# Altium footprint library Texas Instruments.PcbLib: 78 footprints (part 3 of 5)
Each footprint in its own frame and in the unit in brackets; x right, y up, seen from the top. Pads: shape width x height; smd on the part's side, far side on the other; paste and mask are expansions set on the pad; w line width, h text height; cw(c..) or ccw(c..) is an arc to the next point about the centre after c.
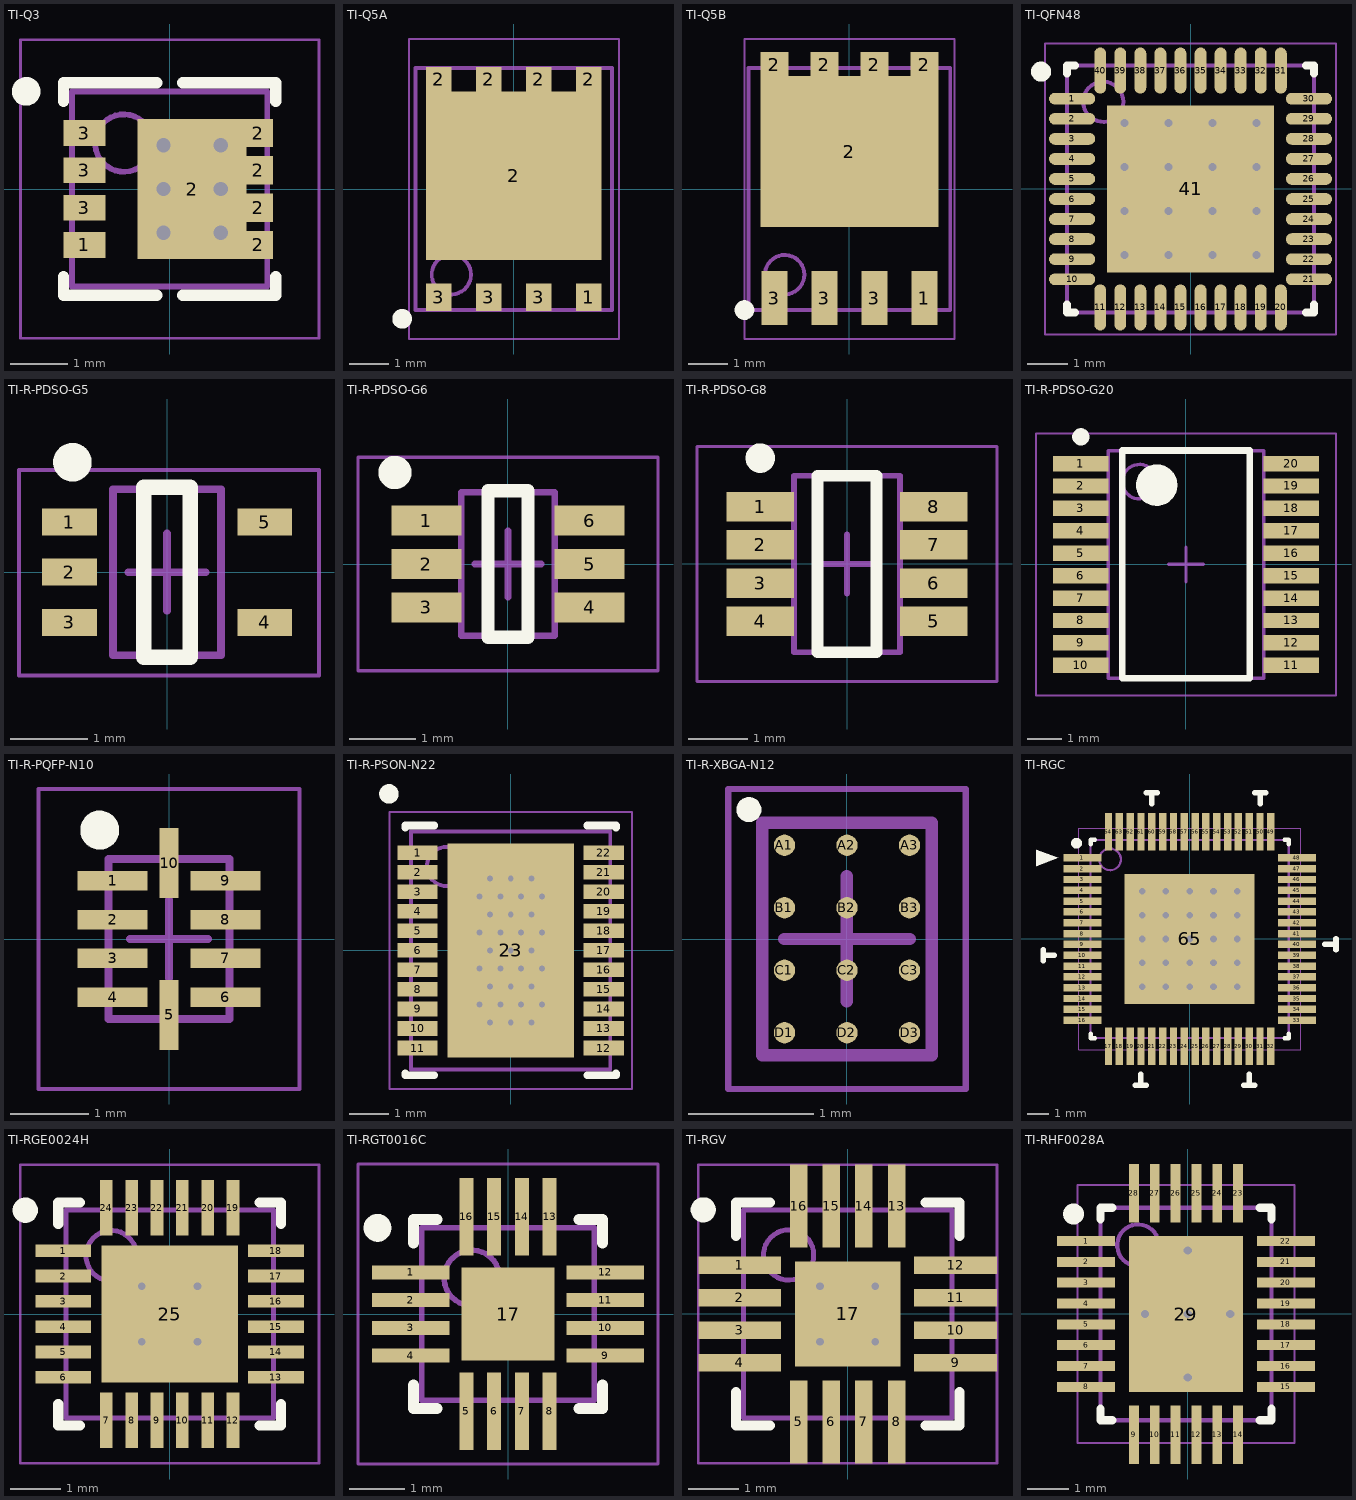
[diagram p2: the footprints below, top view; thin cyan lines are the x and y axes]

## TI-Q3 [mm] "QFN, 8-Leads, Body 3.30x3.30mm, Pitch 0.65mm, Thermal Pad 1.00x1.60mm, IPC Low Density"
height 1
pads (9):
  rect 0.73x0.447 smd paste-0.05 mask-0.05: 1(-1.485,-0.975) 3(-1.485,-0.325) 3(-1.485,0.325) 3(-1.485,0.975)
  rect 1.9x2.445 smd paste-0.05 mask-0.05: 2(0.39,0)
  rect 0.51x0.495 smd paste-0.05 mask-0.05: 2(1.545,-0.975) 2(1.545,-0.325) 2(1.545,0.325) 2(1.545,0.975)
via -0.109,-0.765 diameter 0.656 hole 0.25
via 0.891,-0.765 diameter 0.656 hole 0.25
via -0.109,0.765 diameter 0.656 hole 0.25
via 0.891,0.765 diameter 0.656 hole 0.25
via 0.891,0 diameter 0.656 hole 0.25
via -0.109,0 diameter 0.656 hole 0.25
Top Overlay:
  circle w0.25: c-2.5,1.7 r0.125
  lines w0.2: -1.85,-1.525 -1.85,-1.85 -0.225,-1.85 ; -1.85,1.525 -1.85,1.85 -0.225,1.85 ; 0.225,-1.85 1.85,-1.85 1.85,-1.525 ; 0.225,1.85 1.85,1.85 1.85,1.525
Assembly Top:
  circle w0.1: c-0.8,0.8 r0.5
  lines w0.1: -1.7,-1.7 -1.7,1.7 1.7,1.7 1.7,-1.7 -1.7,-1.7
Courtyard Top:
  lines w0.05: -2.6,-2.6 -2.6,2.6 2.6,2.6 2.6,-2.6 -2.6,-2.6
  lines w0.1: -0.5,0 0.5,0 ; 0,-0.5 0,0.5
3D body "TI-Q3.step": height 1, standoff 0, extent -1.701,-1.7 1.701,1.7

## TI-Q5A [mm]
height 1.1
pads (9):
  rect 0.65x0.7 smd: 1(1.905,-2.753) 3(-1.905,-2.753) 3(-0.635,-2.753) 3(0.635,-2.753)
  rect 0.65x0.63 smd: 2(-1.905,2.787) 2(-0.635,2.787) 2(0.635,2.787) 2(1.905,2.787)
  rect 4.46x4.27 smd: 2(0,0.337)
Top Overlay:
  circle w0.25: c-2.836,-3.298 r0.125
Assembly Top:
  circle w0.1: c-1.586,-2.175 r0.5
  lines w0.1: -2.5,-3.075 2.5,-3.075 2.5,3.075 -2.5,3.075 -2.5,-3.075
Courtyard Top:
  lines w0.05: -2.667,-3.81 2.667,-3.81 2.667,3.81 -2.667,3.81 -2.667,-3.81
  lines w0.1: -0.5,0 0.5,0 ; 0,-0.5 0,0.5
3D body "User Library-PowerPAK_SO-8L_SINGLE.STEP": height 1.07, standoff 0, extent -2.56,-3.075 2.56,3.075

## TI-Q5B [mm]
height 1.05
pads (9):
  rect 0.66x1.372 smd: 1(1.905,-2.77) 3(-1.905,-2.77) 3(-0.635,-2.77) 3(0.635,-2.77)
  rect 0.71x0.65 smd: 2(-1.905,3.161) 2(-0.635,3.161) 2(0.635,3.161) 2(1.905,3.161)
  rect 4.52x3.835 smd: 2(0,0.948)
Top Overlay:
  circle w0.25: c-2.667,-3.075 r0.125
Assembly Top:
  circle w0.1: c-1.646,-2.175 r0.5
  lines w0.1: -2.56,-3.075 -2.56,3.075 2.56,3.075 2.56,-3.075 -2.56,-3.075
Courtyard Top:
  lines w0.05: -2.667,-3.81 -2.667,3.81 2.667,3.81 2.667,-3.81 -2.667,-3.81
  lines w0.1: -0.5,0 0.5,0 ; 0,-0.5 0,0.5
3D body "User Library-PowerPAK_SO-8L_SINGLE.STEP": height 1.07, standoff 0, extent -2.56,-3.075 2.56,3.075

## TI-QFN48 [mm] "PQFN, 40-Leads, Body 6.00x6.00mm, Pitch 0.50mm, Thermal Pad 4.15x4.15mm, IPC Low Density"
height 1
pads (41):
  oval 1.15x0.296 smd: 1(-2.95,2.25) 2(-2.95,1.75) 3(-2.95,1.25) 4(-2.95,0.75) 5(-2.95,0.25) 6(-2.95,-0.25) 7(-2.95,-0.75) 8(-2.95,-1.25) 9(-2.95,-1.75) 10(-2.95,-2.25) 21(2.95,-2.25) 22(2.95,-1.75) 23(2.95,-1.25) 24(2.95,-0.75) 25(2.95,-0.25) 26(2.95,0.25) 27(2.95,0.75) 28(2.95,1.25) 29(2.95,1.75) 30(2.95,2.25)
  oval 0.296x1.15 smd: 11(-2.25,-2.95) 12(-1.75,-2.95) 13(-1.25,-2.95) 14(-0.75,-2.95) 15(-0.25,-2.95) 16(0.25,-2.95) 17(0.75,-2.95) 18(1.25,-2.95) 19(1.75,-2.95) 20(2.25,-2.95) 31(2.25,2.95) 32(1.75,2.95) 33(1.25,2.95) 34(0.75,2.95) 35(0.25,2.95) 36(-0.25,2.95) 37(-0.75,2.95) 38(-1.25,2.95) 39(-1.75,2.95) 40(-2.25,2.95)
  rect 4.15x4.15 smd: 41(0,0)
via 1.65,-1.65 diameter 0.5 hole 0.2
via 0.55,-1.65 diameter 0.5 hole 0.2
via -0.55,-1.65 diameter 0.5 hole 0.2
via -1.65,-1.65 diameter 0.5 hole 0.2
via 1.65,-0.55 diameter 0.5 hole 0.2
via 0.55,-0.55 diameter 0.5 hole 0.2
via -0.55,-0.55 diameter 0.5 hole 0.2
via -1.65,-0.55 diameter 0.5 hole 0.2
via 1.65,0.55 diameter 0.5 hole 0.2
via 0.55,0.55 diameter 0.5 hole 0.2
via -0.55,0.55 diameter 0.5 hole 0.2
via -1.65,0.55 diameter 0.5 hole 0.2
via 1.65,1.65 diameter 0.5 hole 0.2
via 0.55,1.65 diameter 0.5 hole 0.2
via -0.55,1.65 diameter 0.5 hole 0.2
via -1.65,1.65 diameter 0.5 hole 0.2
Top Overlay:
  circle w0.25: c-3.725,2.925 r0.125
  lines w0.2: -3.075,-2.875 -3.075,-3.075 -2.875,-3.075 ; -3.075,2.875 -3.075,3.075 -2.875,3.075 ; 2.875,-3.075 3.075,-3.075 3.075,-2.875 ; 2.875,3.075 3.075,3.075 3.075,2.875
Assembly Top:
  circle w0.1: c-2.175,2.175 r0.5
  lines w0.1: -3.075,-3.075 -3.075,3.075 3.075,3.075 3.075,-3.075 -3.075,-3.075
Courtyard Top:
  lines w0.05: -3.625,-3.625 3.625,-3.625 3.625,3.625 -3.625,3.625 -3.625,-3.625
  lines w0.1: -0.5,0 0.5,0 ; 0,-0.5 0,0.5
3D body: height 1, standoff 0, extent -3.075,-3.075 3.075,3.075

## TI-R-PDSO-G5 [mm] "SOT23, 5-Leads, Body 2.00x2.10mm, Pitch 0.65mm, IPC Low Density"
height 1.1
pads (5):
  rect 0.712x0.35 smd: 1(-1.266,0.65) 2(-1.266,0) 3(-1.266,-0.65) 4(1.266,-0.65) 5(1.266,0.65)
Top Overlay:
  circle w0.25: c-1.225,1.425 r0.125
  lines w0.2: -0.3,-1.1 -0.3,1.1 0.3,1.1 0.3,-1.1 -0.3,-1.1
Assembly Top:
  lines w0.1: -0.7,-1.075 0.7,-1.075 0.7,1.075 -0.7,1.075 -0.7,-1.075
Courtyard Top:
  lines w0.05: -1.917,-1.338 1.968,-1.338 1.968,1.325 -1.917,1.325 -1.917,-1.338
  lines w0.1: -0.5,0 0.5,0 ; 0,-0.5 0,0.5
3D body "TI-R-PDSO-G5.step": height 1.1, standoff 0, extent -1.2,-1.075 1.2,1.075

## TI-R-PDSO-G6 [mm] "SOT23, 6-Leads, Body 2.00x2.10mm, Pitch 0.65mm, IPC Low Density"
height 1.1
pads (6):
  rect 1.05x0.45 smd: 1(-1.225,0.65) 2(-1.225,0) 3(-1.225,-0.65) 4(1.225,-0.65) 5(1.225,0) 6(1.225,0.65)
Top Overlay:
  circle w0.25: c-1.695,1.372 r0.125
  lines w0.2: -0.3,-1.1 -0.3,1.1 0.3,1.1 0.3,-1.1 -0.3,-1.1
Top Assembly:
  lines w0.1: -0.7,-1.075 0.7,-1.075 0.7,1.075 -0.7,1.075 -0.7,-1.075
Top Courtyard:
  lines w0.05: -2.25,-1.6 2.25,-1.6 2.25,1.6 -2.25,1.6 -2.25,-1.6
  lines w0.1: -0.5,0 0.5,0 ; 0,-0.5 0,0.5
3D body "TI-R-PDSO-G61.step": height 1.1, standoff 0, extent -1.2,-1.075 1.2,1.075

## TI-R-PDSO-G8 [mm] "TSOP, 8-Leads, Body 2.90x1.60mm, Pitch 0.65mm, IPC Low Density"
height 1.45
pads (8):
  rect 1.15x0.5 smd: 1(-1.475,0.975) 2(-1.475,0.325) 3(-1.475,-0.325) 4(-1.475,-0.975) 5(1.475,-0.975) 6(1.475,-0.325) 7(1.475,0.325) 8(1.475,0.975)
Top Overlay:
  circle w0.25: c-1.475,1.8 r0.125
  lines w0.2: -0.5,-1.5 0.5,-1.5 0.5,1.5 -0.5,1.5 -0.5,-1.5
Top Assembly:
  lines w0.1: -0.9,-1.5 0.9,-1.5 0.9,1.5 -0.9,1.5 -0.9,-1.5
Top Courtyard:
  lines w0.05: -2.55,-2 2.55,-2 2.55,2 -2.55,2 -2.55,-2
  lines w0.1: -0.5,0 0.5,0 ; 0,-0.5 0,0.5
3D body "R-PDSO-G8.step": height 1.45, standoff 0, extent -1.393,-1.5 1.393,1.5

## TI-R-PDSO-G20 [mm] "TSOP, 20-Leads, Body 6.50x4.40mm, Pitch 0.65mm, IPC Low Density"
height 1.2
pads (20):
  rect 1.6x0.447 smd: 1(-3.05,2.925) 2(-3.05,2.275) 3(-3.05,1.625) 4(-3.05,0.975) 5(-3.05,0.325) 6(-3.05,-0.325) 7(-3.05,-0.975) 8(-3.05,-1.625) 9(-3.05,-2.275) 10(-3.05,-2.925) 11(3.05,-2.925) 12(3.05,-2.275) 13(3.05,-1.625) 14(3.05,-0.975) 15(3.05,-0.325) 16(3.05,0.325) 17(3.05,0.975) 18(3.05,1.625) 19(3.05,2.275) 20(3.05,2.925)
Top Overlay:
  circle w0.6: c-0.85,2.3 r0.3
  circle w0.25: c-3.05,3.7 r0.125
  lines w0.2: -1.85,-3.3 1.85,-3.3 1.85,3.3 -1.85,3.3 -1.85,-3.3
Assembly Top:
  circle w0.1: c-1.35,2.4 r0.5
  lines w0.1: -2.25,-3.3 2.25,-3.3 2.25,3.3 -2.25,3.3 -2.25,-3.3
Courtyard Top:
  lines w0.05: -4.35,-3.8 4.35,-3.8 4.35,3.8 -4.35,3.8 -4.35,-3.8
  lines w0.1: -0.5,0 0.5,0 ; 0,-0.5 0,0.5
3D body "TI-PWRPDSOG20.step": height 1.2, standoff 0, extent -3.2,-3.3 3.2,3.3

## TI-R-PQFP-N10 [mm] "QFN, 10-Leads, Body 1.50x2.00mm, Pitch 0.50mm, IPC Low Density"
height 0.4
pads (10):
  rect 0.9x0.25 smd: 1(-0.725,0.75) 2(-0.725,0.25) 3(-0.725,-0.25) 4(-0.725,-0.75) 6(0.725,-0.75) 7(0.725,-0.25) 8(0.725,0.25) 9(0.725,0.75)
  rect 0.25x0.9 smd: 5(0,-0.975) 10(0,0.975)
Top Overlay:
  circle w0.25: c-0.889,1.397 r0.125
Top Assembly:
  lines w0.1: -0.775,-1.025 0.775,-1.025 0.775,1.025 -0.775,1.025 -0.775,-1.025
Top Courtyard:
  lines w0.05: -1.675,-1.925 1.675,-1.925 1.675,1.925 -1.675,1.925 -1.675,-1.925
  lines w0.1: -0.5,0 0.5,0 ; 0,-0.5 0,0.5
3D body "TI-R-PQFP-N10.step": height 0.4, standoff 0, extent -0.776,-1.026 0.776,1.026

## TI-R-PSON-N22 [mm] "PSON, 22-Leads, Body 6.00x5.00mm, Pitch 0.50mm, Thermal Pad 5.48x3.24mm, IPC Low Density"
height 1.5
pads (23):
  rect 1.03x0.373 smd: 1(-2.385,2.5) 2(-2.385,2) 3(-2.385,1.5) 4(-2.385,1) 5(-2.385,0.5) 6(-2.385,0) 7(-2.385,-0.5) 8(-2.385,-1) 9(-2.385,-1.5) 10(-2.385,-2) 11(-2.385,-2.5) 12(2.385,-2.5) 13(2.385,-2) 14(2.385,-1.5) 15(2.385,-1) 16(2.385,-0.5) 17(2.385,0) 18(2.385,0.5) 19(2.385,1) 20(2.385,1.5) 21(2.385,2) 22(2.385,2.5)
  rect 3.24x5.48 smd paste-1.62: 23(0,0)
via -0.8,-0.462 diameter 0.406 hole 0.152
via -0.533,0 diameter 0.406 hole 0.152
via 0.267,-0.462 diameter 0.406 hole 0.152
via -0.267,-0.462 diameter 0.406 hole 0.152
via 0,0 diameter 0.406 hole 0.152
via -0.8,0.462 diameter 0.406 hole 0.152
via 0.267,0.462 diameter 0.406 hole 0.152
via -0.267,0.462 diameter 0.406 hole 0.152
via 0.533,0 diameter 0.406 hole 0.152
via 0.8,0.462 diameter 0.406 hole 0.152
via 0.8,-0.462 diameter 0.406 hole 0.152
via -0.533,-0.924 diameter 0.406 hole 0.152
via 0,-0.924 diameter 0.406 hole 0.152
via -0.8,-1.386 diameter 0.406 hole 0.152
via 0.267,-1.386 diameter 0.406 hole 0.152
via -0.267,-1.386 diameter 0.406 hole 0.152
via 0.533,-0.924 diameter 0.406 hole 0.152
via 0.8,-1.386 diameter 0.406 hole 0.152
via -0.533,0.924 diameter 0.406 hole 0.152
via 0,0.924 diameter 0.406 hole 0.152
via -0.8,1.386 diameter 0.406 hole 0.152
via 0.267,1.386 diameter 0.406 hole 0.152
via -0.267,1.386 diameter 0.406 hole 0.152
via 0.533,0.924 diameter 0.406 hole 0.152
via 0.8,1.386 diameter 0.406 hole 0.152
via -0.533,1.848 diameter 0.406 hole 0.152
via 0,1.848 diameter 0.406 hole 0.152
via 0.533,1.848 diameter 0.406 hole 0.152
via -0.533,-1.848 diameter 0.406 hole 0.152
via 0,-1.848 diameter 0.406 hole 0.152
via 0.533,-1.848 diameter 0.406 hole 0.152
Top Overlay:
  circle w0.25: c-3.12,4.01 r0.125
  lines w0.2: -2.7,-3.15 -2.7,-3.2 -1.96,-3.2 ; -2.7,3.15 -2.7,3.2 -1.96,3.2 ; 1.96,-3.2 2.7,-3.2 2.7,-3.15 ; 1.96,3.2 2.7,3.2 2.7,3.15
Top Paste:
  rectangle: 0.1,-2.64 1.52,-1.47
  rectangle: 0.1,-1.27 1.52,-0.1
  rectangle: 0.1,0.1 1.52,1.27
  rectangle: 0.1,1.47 1.52,2.64
  rectangle: -1.52,-2.64 -0.1,-1.47
  rectangle: -1.52,-1.27 -0.1,-0.1
  rectangle: -1.52,0.1 -0.1,1.27
  rectangle: -1.52,1.47 -0.1,2.64
Top Assembly:
  circle w0.1: c-1.65,2.15 r0.5
  lines w0.1: -2.55,-3.05 2.55,-3.05 2.55,3.05 -2.55,3.05 -2.55,-3.05
Top Courtyard:
  lines w0.05: -3.105,-3.55 3.105,-3.55 3.105,3.55 -3.105,3.55 -3.105,-3.55
  lines w0.1: -0.5,0 0.5,0 ; 0,-0.5 0,0.5
3D body "PSON50P500X150_HS-23M.step": height 1.5, standoff 0, extent -2.551,-3.05 2.551,3.05

## TI-R-XBGA-N12 [mm] "BGA, 12-Leads, Body 1.36x1.86mmx0.63mm, Pitch 0.50mm"
height 0.63
pads (12):
  round 0.17 smd: A1(-0.5,0.75) A2(0,0.75) A3(0.5,0.75) B1(-0.5,0.25) B2(0,0.25) B3(0.5,0.25) C1(-0.5,-0.25) C2(0,-0.25) C3(0.5,-0.25) D1(-0.5,-0.75) D2(0,-0.75) D3(0.5,-0.75)
Top Overlay:
  circle w0.1: c-0.785,1.035 r0.05
Assembly Top:
  lines w0.1: -0.68,-0.93 -0.68,0.93 0.68,0.93 0.68,-0.93 -0.68,-0.93
Courtyard Top:
  lines w0.05: -0.95,-1.2 -0.95,1.2 0.95,1.2 0.95,-1.2 -0.95,-1.2
  lines w0.1: -0.5,0 0.5,0 ; 0,-0.5 0,0.5
3D body "TI-R-XBGA-N12.step": height 0.63, standoff 0, extent -0.68,-0.93 0.68,0.93

## TI-RGC [mm] "PQFN, 64-Leads, Body 9.00x9.00mm, Pitch 0.50mm, Thermal Pad 6.00x6.00mm, IPC Low Density"
height 1
pads (65):
  rect 1.75x0.34 smd: 1(-4.95,3.75) 2(-4.95,3.25) 3(-4.95,2.75) 4(-4.95,2.25) 5(-4.95,1.75) 6(-4.95,1.25) 7(-4.95,0.75) 8(-4.95,0.25) 9(-4.95,-0.25) 10(-4.95,-0.75) 11(-4.95,-1.25) 12(-4.95,-1.75) 13(-4.95,-2.25) 14(-4.95,-2.75) 15(-4.95,-3.25) 16(-4.95,-3.75) 33(4.95,-3.75) 34(4.95,-3.25) 35(4.95,-2.75) 36(4.95,-2.25) 37(4.95,-1.75) 38(4.95,-1.25) 39(4.95,-0.75) 40(4.95,-0.25) 41(4.95,0.25) 42(4.95,0.75) 43(4.95,1.25) 44(4.95,1.75) 45(4.95,2.25) 46(4.95,2.75) 47(4.95,3.25) 48(4.95,3.75)
  rect 0.34x1.75 smd: 17(-3.75,-4.95) 18(-3.25,-4.95) 19(-2.75,-4.95) 20(-2.25,-4.95) 21(-1.75,-4.95) 22(-1.25,-4.95) 23(-0.75,-4.95) 24(-0.25,-4.95) 25(0.25,-4.95) 26(0.75,-4.95) 27(1.25,-4.95) 28(1.75,-4.95) 29(2.25,-4.95) 30(2.75,-4.95) 31(3.25,-4.95) 32(3.75,-4.95) 49(3.75,4.95) 50(3.25,4.95) 51(2.75,4.95) 52(2.25,4.95) 53(1.75,4.95) 54(1.25,4.95) 55(0.75,4.95) 56(0.25,4.95) 57(-0.25,4.95) 58(-0.75,4.95) 59(-1.25,4.95) 60(-1.75,4.95) 61(-2.25,4.95) 62(-2.75,4.95) 63(-3.25,4.95) 64(-3.75,4.95)
  rect 6x6 smd: 65(0,0)
via 2.2,-2.2 diameter 0.607 hole 0.301
via 1.1,-2.2 diameter 0.607 hole 0.301
via 0,-2.2 diameter 0.607 hole 0.301
via -1.1,-2.2 diameter 0.607 hole 0.301
via -2.2,-2.2 diameter 0.607 hole 0.301
via 2.2,-1.1 diameter 0.607 hole 0.301
via 1.1,-1.1 diameter 0.607 hole 0.301
via 0,-1.1 diameter 0.607 hole 0.301
via -1.1,-1.1 diameter 0.607 hole 0.301
via -2.2,-1.1 diameter 0.607 hole 0.301
via 2.2,0 diameter 0.607 hole 0.301
via 1.1,0 diameter 0.607 hole 0.301
via 0,0 diameter 0.607 hole 0.301
via -1.1,0 diameter 0.607 hole 0.301
via -2.2,0 diameter 0.607 hole 0.301
via 2.2,1.1 diameter 0.607 hole 0.301
via 1.1,1.1 diameter 0.607 hole 0.301
via 0,1.1 diameter 0.607 hole 0.301
via -1.1,1.1 diameter 0.607 hole 0.301
via -2.2,1.1 diameter 0.607 hole 0.301
via 2.2,2.2 diameter 0.607 hole 0.301
via 1.1,2.2 diameter 0.607 hole 0.301
via 0,2.2 diameter 0.607 hole 0.301
via -1.1,2.2 diameter 0.607 hole 0.301
via -2.2,2.2 diameter 0.607 hole 0.301
Top Overlay:
  circle w0.25: c-5.225,4.425 r0.125
  region: -6.08,3.741 -7.096,4.122 -7.096,3.36
  lines w0.2: -4.575,-4.375 -4.575,-4.575 -4.375,-4.575 ; -4.575,4.375 -4.575,4.575 -4.375,4.575 ; 4.375,-4.575 4.575,-4.575 4.575,-4.375 ; 4.375,4.575 4.575,4.575 4.575,4.375
  lines w0.254: -6.756,-1.004 -6.756,-0.496 ; -6.756,-0.75 -6.248,-0.75 ; -2.504,-6.756 -1.996,-6.756 ; -2.25,-6.756 -2.25,-6.248 ; -2.004,6.756 -1.496,6.756 ; -1.75,6.248 -1.75,6.756 ; 2.496,-6.756 3.004,-6.756 ; 2.75,-6.756 2.75,-6.248 ; 2.996,6.756 3.504,6.756 ; 3.25,6.248 3.25,6.756 ; 6.248,-0.25 6.756,-0.25 ; 6.756,-0.504 6.756,0.004
Assembly Top:
  circle w0.1: c-3.675,3.675 r0.5
  lines w0.1: -4.575,-4.575 4.575,-4.575 4.575,4.575 -4.575,4.575 -4.575,-4.575
Courtyard Top:
  lines w0.05: -5.125,-5.125 5.125,-5.125 5.125,5.125 -5.125,5.125 -5.125,-5.125
  lines w0.1: -0.5,0 0.5,0 ; 0,-0.5 0,0.5
3D body "TI-RGC.step": height 1, standoff 0, extent -4.575,-4.575 4.575,4.575

## TI-RGE0024H [mm] "QFN, 24-Leads, Body 4.00x4.00mm, Pitch 0.50mm, Thermal Pad 2.70x2.70mm, IPC Low Density"
height 1
pads (25):
  rect 1.1x0.25 smd: 1(-2.1,1.25) 2(-2.1,0.75) 3(-2.1,0.25) 4(-2.1,-0.25) 5(-2.1,-0.75) 6(-2.1,-1.25) 13(2.1,-1.25) 14(2.1,-0.75) 15(2.1,-0.25) 16(2.1,0.25) 17(2.1,0.75) 18(2.1,1.25)
  rect 0.25x1.1 smd: 7(-1.25,-2.1) 8(-0.75,-2.1) 9(-0.25,-2.1) 10(0.25,-2.1) 11(0.75,-2.1) 12(1.25,-2.1) 19(1.25,2.1) 20(0.75,2.1) 21(0.25,2.1) 22(-0.25,2.1) 23(-0.75,2.1) 24(-1.25,2.1)
  rect 2.7x2.7 smd: 25(0,0)
via 0.55,-0.55 diameter 0.406 hole 0.152
via -0.55,-0.55 diameter 0.406 hole 0.152
via 0.55,0.55 diameter 0.406 hole 0.152
via -0.55,0.55 diameter 0.406 hole 0.152
Top Overlay:
  circle w0.25: c-2.85,2.05 r0.125
  lines w0.2: -2.2,-1.775 -2.2,-2.2 -1.775,-2.2 ; -2.2,1.775 -2.2,2.2 -1.775,2.2 ; 1.775,-2.2 2.2,-2.2 2.2,-1.775 ; 1.775,2.2 2.2,2.2 2.2,1.775
Top Assembly:
  circle w0.1: c-1.15,1.15 r0.5
  lines w0.1: -2.05,-2.05 -2.05,2.05 2.05,2.05 2.05,-2.05 -2.05,-2.05
Top Courtyard:
  lines w0.05: -2.95,-2.95 -2.95,2.95 2.95,2.95 2.95,-2.95 -2.95,-2.95
  lines w0.1: -0.5,0 0.5,0 ; 0,-0.5 0,0.5
3D body "TI-RGE0024H.step": height 1, standoff 0, extent -2.051,-2.051 2.051,2.051

## TI-RGT0016C [mm] "QFN, 16-Leads, Body 3.00x3.00mm, Pitch 0.50mm, Thermal Pad 1.68x1.68mm, IPC Low Density"
height 1
pads (17):
  rect 1.4x0.25 smd: 1(-1.75,0.75) 2(-1.75,0.25) 3(-1.75,-0.25) 4(-1.75,-0.75) 9(1.75,-0.75) 10(1.75,-0.25) 11(1.75,0.25) 12(1.75,0.75)
  rect 0.25x1.4 smd: 5(-0.75,-1.75) 6(-0.25,-1.75) 7(0.25,-1.75) 8(0.75,-1.75) 13(0.75,1.75) 14(0.25,1.75) 15(-0.25,1.75) 16(-0.75,1.75)
  rect 1.68x1.68 smd: 17(0,0)
Top Overlay:
  circle w0.25: c-2.35,1.55 r0.125
  lines w0.2: -1.7,-1.275 -1.7,-1.7 -1.275,-1.7 ; -1.7,1.275 -1.7,1.7 -1.275,1.7 ; 1.275,-1.7 1.7,-1.7 1.7,-1.275 ; 1.275,1.7 1.7,1.7 1.7,1.275
Assembly Top:
  circle w0.1: c-0.65,0.65 r0.5
  lines w0.1: -1.55,-1.55 -1.55,1.55 1.55,1.55 1.55,-1.55 -1.55,-1.55
Courtyard Top:
  lines w0.05: -2.7,-2.7 -2.7,2.7 2.7,2.7 2.7,-2.7 -2.7,-2.7
Top Courtyard:
  lines w0.1: -0.5,0 0.5,0 ; 0,-0.5 0,0.5
3D body "TI-RGT0016C.step": height 1, standoff 0, extent -1.551,-1.551 1.551,1.551

## TI-RGV [mm] "QFN, 16-Leads, Body 4.00x4.00mm, Pitch 0.65mm, Thermal Pad 2.10x2.10mm, IPC Low Density"
height 1
pads (17):
  rect 1.65x0.35 smd: 1(-2.15,0.975) 2(-2.15,0.325) 3(-2.15,-0.325) 4(-2.15,-0.975) 9(2.15,-0.975) 10(2.15,-0.325) 11(2.15,0.325) 12(2.15,0.975)
  rect 0.35x1.65 smd: 5(-0.975,-2.15) 6(-0.325,-2.15) 7(0.325,-2.15) 8(0.975,-2.15) 13(0.975,2.15) 14(0.325,2.15) 15(-0.325,2.15) 16(-0.975,2.15)
  rect 2.1x2.1 smd: 17(0,0)
via -0.55,0.55 diameter 0.406 hole 0.152
via 0.55,0.55 diameter 0.406 hole 0.152
via -0.55,-0.55 diameter 0.406 hole 0.152
via 0.55,-0.55 diameter 0.406 hole 0.152
Top Overlay:
  circle w0.25: c-2.875,2.075 r0.125
  lines w0.2: -2.225,-1.55 -2.225,-2.225 -1.55,-2.225 ; -2.225,1.55 -2.225,2.225 -1.55,2.225 ; 1.55,-2.225 2.225,-2.225 2.225,-1.55 ; 1.55,2.225 2.225,2.225 2.225,1.55
Assembly Top:
  circle w0.1: c-1.175,1.175 r0.5
  lines w0.1: -2.075,-2.075 2.075,-2.075 2.075,2.075 -2.075,2.075 -2.075,-2.075
Courtyard Top:
  lines w0.05: -2.975,-2.975 2.975,-2.975 2.975,2.975 -2.975,2.975 -2.975,-2.975
  lines w0.1: -0.5,0 0.5,0 ; 0,-0.5 0,0.5
3D body "TI-RGV.step": height 1, standoff 0, extent -2.076,-2.076 2.076,2.076

## TI-RHF0028A [mm] "PQFN, 28-Leads, Body 4.00x5.00mm, Pitch 0.50mm, Thermal Pad 2.74x3.74mm, IPC Low Density"
height 1
pads (29):
  rect 1.4x0.24 smd: 1(-2.439,1.749) 2(-2.439,1.249) 3(-2.439,0.749) 4(-2.439,0.249) 5(-2.439,-0.251) 6(-2.439,-0.751) 7(-2.439,-1.251) 8(-2.439,-1.751) 15(2.361,-1.751) 16(2.361,-1.251) 17(2.361,-0.751) 18(2.361,-0.251) 19(2.361,0.249) 20(2.361,0.749) 21(2.361,1.249) 22(2.361,1.749)
  rect 0.24x1.4 smd: 9(-1.289,-2.901) 10(-0.789,-2.901) 11(-0.289,-2.901) 12(0.211,-2.901) 13(0.711,-2.901) 14(1.211,-2.901) 23(1.211,2.899) 24(0.711,2.899) 25(0.211,2.899) 26(-0.289,2.899) 27(-0.789,2.899) 28(-1.289,2.899)
  rect 2.74x3.74 smd: 29(-0.039,-0.001)
via 0,0 diameter 0.5 hole 0.2
via 1.025,0 diameter 0.5 hole 0.2
via -1.025,0 diameter 0.5 hole 0.2
via 0,-1.525 diameter 0.5 hole 0.2
via 0,1.525 diameter 0.5 hole 0.2
Top Overlay:
  circle w0.25: c-2.739,2.399 r0.125
  lines w0.2: -2.089,-2.271 -2.089,-2.551 -1.809,-2.551 ; -2.089,2.269 -2.089,2.549 -1.809,2.549 ; 1.731,-2.551 2.011,-2.551 2.011,-2.271 ; 1.731,2.549 2.011,2.549 2.011,2.269
Assembly Top:
  circle w0.1: c-1.189,1.649 r0.5
  lines w0.1: -2.089,-2.551 2.011,-2.551 2.011,2.549 -2.089,2.549 -2.089,-2.551
Courtyard Top:
  lines w0.05: -2.639,-3.101 2.561,-3.101 2.561,3.099 -2.639,3.099 -2.639,-3.101
  lines w0.1: -0.539,-0.001 0.461,-0.001 ; -0.039,-0.501 -0.039,0.499
3D body "TI-RHF0028A.step": height 1, standoff 0, extent -2.089,-2.551 2.011,2.549